# Altium schematic symbol library MAYA-W276-00B.SchLib: 1 symbol
Pins are listed as number, name and electrical type; pins without a type are passive.

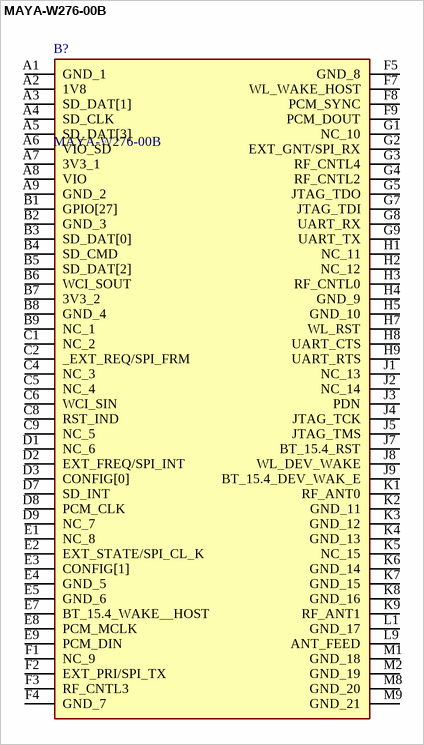
[diagram p0: symbol MAYA-W276-00B]

## MAYA-W276-00B
designator B?
Multiprotocol Modules IW612, 802.11ax+BT+802.15.4, 1 PCB antenna or ant. pin; Manufacturer_Name: u-blox; Geometry.Height: 2.12mm; Mouser Part Number: 377-MAYA-W276-00B; Mouser Price/Stock: https://www.mouser.co.uk/ProductDetail/u-blox/MAYA-W276-00B?qs=By6Nw2ByBD2UUDX35rOZMQ%3D%3D; Manufacturer_Part_Number: MAYA-W276-00B; Datasheet Link: https://content.u-blox.com/sites/default/files/documents/MAYA-W2_DataSheet_UBX-22009721.pdf
footprint MAYAW27600B
pins: A1 GND_1, A2 1V8, A3 SD_DAT[1], A4 SD_CLK, A5 SD_DAT[3], A6 VIO_SD, A7 3V3_1, A8 VIO, A9 GND_2, B1 GPIO[27], B2 GND_3, B3 SD_DAT[0], B4 SD_CMD, B5 SD_DAT[2], B6 WCI_SOUT, B7 3V3_2, B8 GND_4, B9 NC_1, C1 NC_2, C2 _EXT_REQ/SPI_FRM, C4 NC_3, C5 NC_4, C6 WCI_SIN, C8 RST_IND, C9 NC_5, D1 NC_6, D2 EXT_FREQ/SPI_INT, D3 CONFIG[0], D7 SD_INT, D8 PCM_CLK, D9 NC_7, E1 NC_8, E2 EXT_STATE/SPI_CL_K, E3 CONFIG[1], E4 GND_5, E5 GND_6, E7 BT_15.4_WAKE__HOST, E8 PCM_MCLK, E9 PCM_DIN, F1 NC_9, F2 EXT_PRI/SPI_TX, F3 RF_CNTL3, F4 GND_7, F5 GND_8, F7 WL_WAKE_HOST, F8 PCM_SYNC, F9 PCM_DOUT, G1 NC_10, G2 EXT_GNT/SPI_RX, G3 RF_CNTL4, G4 RF_CNTL2, G5 JTAG_TDO, G7 JTAG_TDI, G8 UART_RX, G9 UART_TX, H1 NC_11, H2 NC_12, H3 RF_CNTL0, H4 GND_9, H5 GND_10, H7 WL_RST, H8 UART_CTS, H9 UART_RTS, J1 NC_13, J2 NC_14, J3 PDN, J4 JTAG_TCK, J5 JTAG_TMS, J7 BT_15.4_RST, J8 WL_DEV_WAKE, J9 BT_15.4_DEV_WAK_E, K1 RF_ANT0, K2 GND_11, K3 GND_12, K4 GND_13, K5 NC_15, K6 GND_14, K7 GND_15, K8 GND_16, K9 RF_ANT1, L1 GND_17, L9 ANT_FEED, M1 GND_18, M2 GND_19, M8 GND_20, M9 GND_21